# EAGLE library part ADAFRUIT_GPS_V3 (library air_quality_parts)
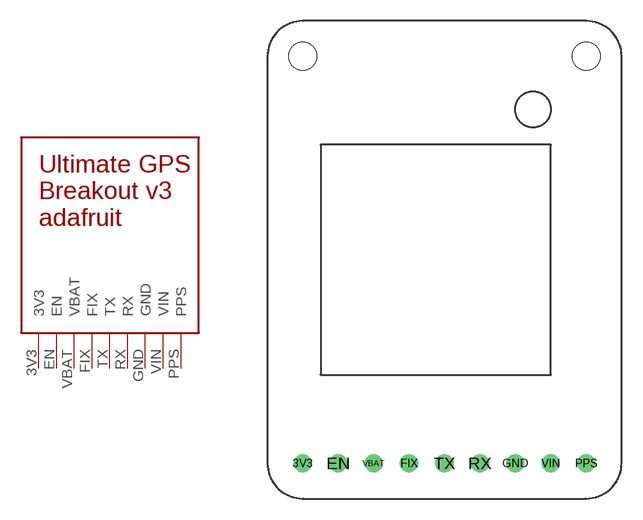
[diagram p2: symbol with the pads of ADAFRUIT_GPS_V3; footprint ADAFRUIT_GPS_V3]

Designator prefix -

## ADAFRUIT_GPS_V3  [ADAFRUIT_GPS_V3]
3V3  3V3
EN  EN
FIX  FIX
GND  GND
PPS  PPS
RX  RX
TX  TX
VBAT  VBAT
VIN  VIN

## Footprint ADAFRUIT_GPS_V3 (pad centres in mm)
drill 0.8: 3V3 2.54,2.54; EN 5.08,2.54; FIX 10.16,2.54; GND 17.78,2.54; PPS 22.86,2.54; RX 15.24,2.54; TX 12.7,2.54; VBAT 7.62,2.54; VIN 20.32,2.54
hole 2 at 2.54,31.75
hole 2 at 22.86,31.75